# Altium footprint library Diodes_SMD.PcbLib: 28 footprints (part 1 of 2)
Each footprint in its own frame and in the unit in brackets; x right, y up, seen from the top. Pads: shape width x height; smd on the part's side, far side on the other; paste and mask are expansions set on the pad; w line width, h text height; cw(c..) or ccw(c..) is an arc to the next point about the centre after c.
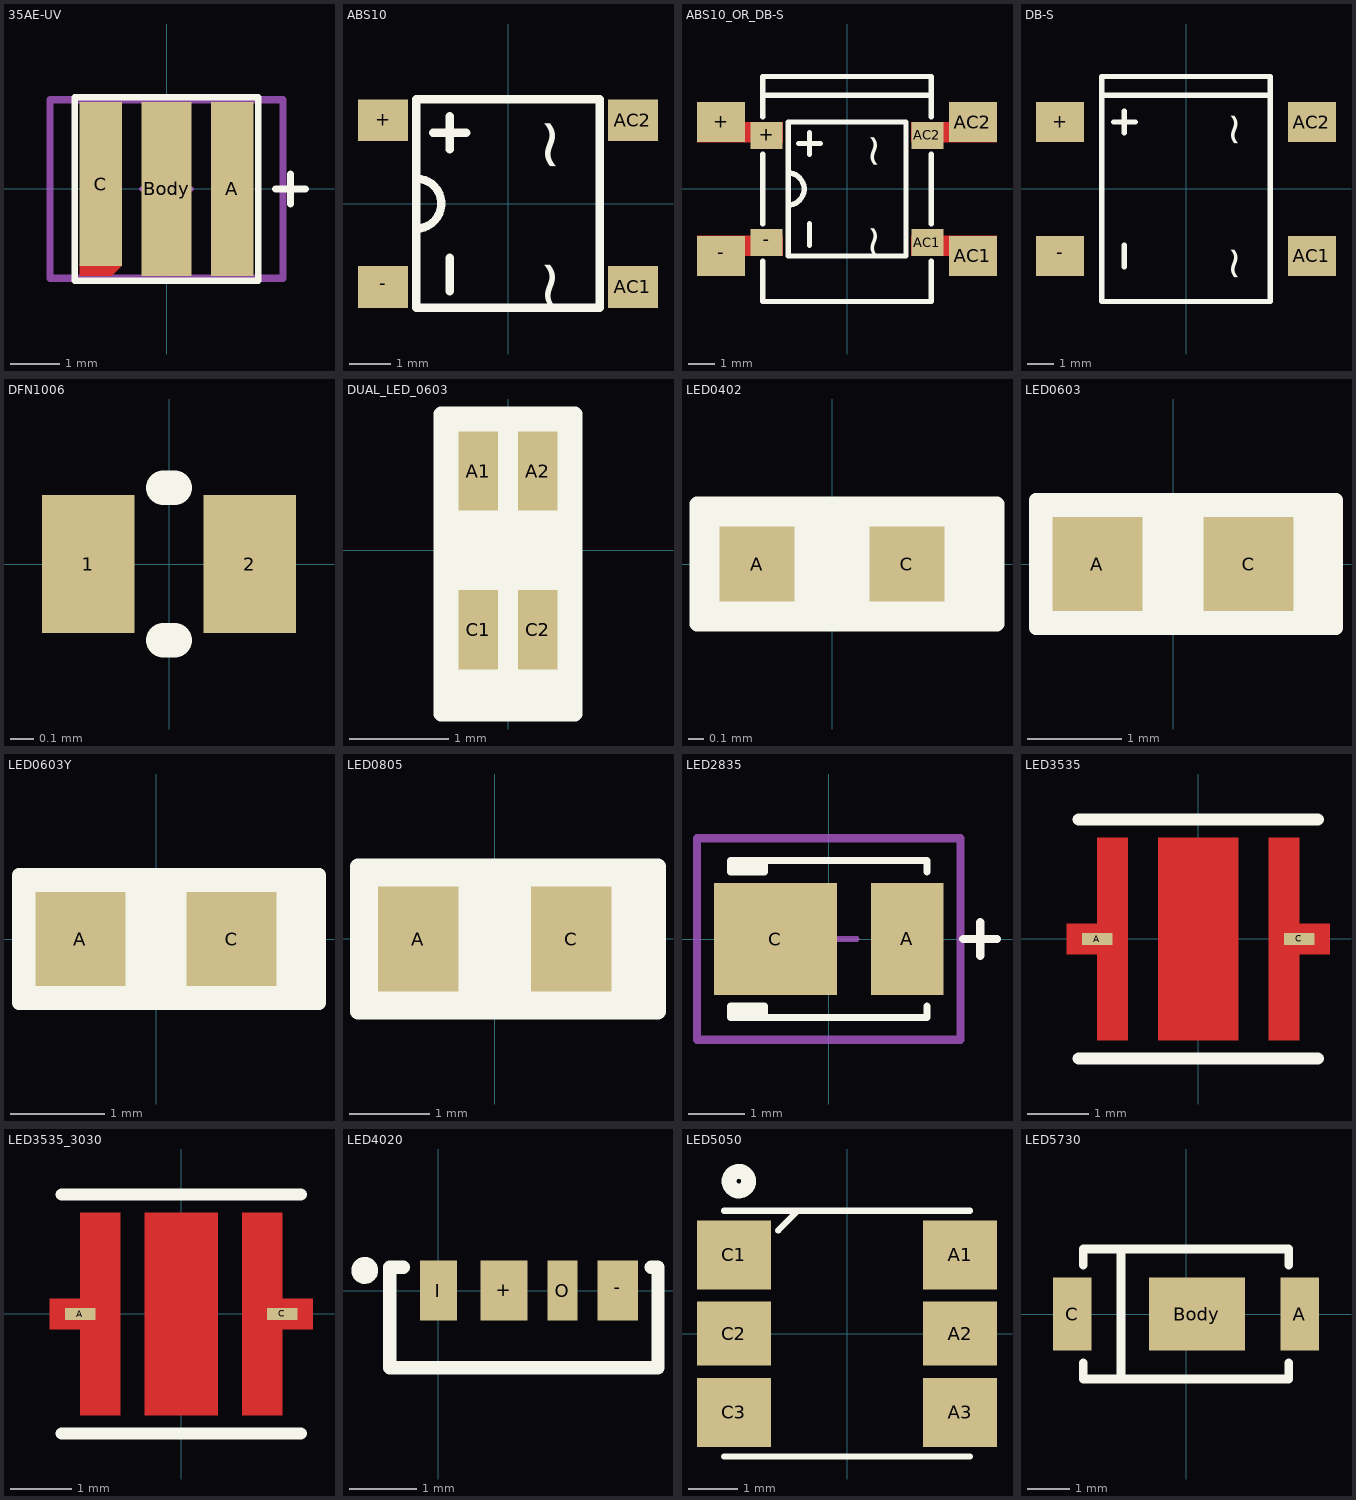
[diagram p0: the footprints below, top view; thin cyan lines are the x and y axes]

## 35AE-UV [mm]
pads (3):
  rect 0.85x3.5 smd: A(1.325,0)
  rect 1x3.5 smd: Body(0,0)
  rect 0.85x3.3 smd: C(-1.325,0.1)
Top Layer:
  region: -1.75,-1.525 -1.75,-1.75 -1.1,-1.75 -0.9,-1.55 -0.9,-1.525
Top Overlay:
  lines w0.127: -1.85,1.85 -1.85,-1.85 1.85,-1.85 1.85,1.85 -1.85,1.85
  lines w0.15: 2.2,0 2.8,0 ; 2.5,-0.3 2.5,0.3
Top Solder:
  region: -1.85,-1.525 -1.85,-1.85 -1,-1.85 -0.8,-1.65 -0.8,-1.525
Mechanical 15:
  lines w0.1: -0.5,0 0.5,0 ; 0,-0.5 0,0.5
Mechanical 16:
  lines w0.15: -2.349,-1.8 2.349,-1.8 2.349,1.8 -2.349,1.8 -2.349,-1.8
3D body: height 1.5, standoff 0, extent -1.85,-1.85 1.85,1.85

## ABS10 [mm]
pads (4):
  rect 1.2x1 smd: +(-3,2) -(-3,-2) AC1(3,-2) AC2(3,2)
Top Overlay:
  lines w0.2: -2.2,-0.6 ccw(c-2.2,0) -2.2,0.6 ; -1.8,1.7 -1,1.7 ; -1.4,-2.1 -1.4,-1.3 ; -1.4,1.3 -1.4,2.1 ; -2.2,-2.5 2.2,-2.5 2.2,2.5 -2.2,2.5 -2.2,-2.5
  text "~" at 0.5,2.1 h1.2
  text "~" at 0.5,-1.3 h1.2
3D body "ABS6.SLDPRT": height 1.55, standoff 0, extent -3.1,-2.5 3.1,2.5

## ABS10_OR_DB-S [mm]
height 2.8
pads (8):
  rect 1.8x1.5 smd: +(-4.7,2.5) -(-4.7,-2.5) AC1(4.7,-2.5) AC2(4.7,2.5)
  rect 1.2x1 smd: +(-3,2) -(-3,-2) AC1(3,-2) AC2(3,2)
Top Layer:
  region: -5.6,-2.5 -2.4,-2.5 -2.4,-1.75 -5.6,-1.75
  region: 5.6,-2.5 2.4,-2.5 2.4,-1.75 5.6,-1.75
  region: 5.6,2.5 2.4,2.5 2.4,1.75 5.6,1.75
  region: -5.6,2.5 -2.4,2.5 -2.4,1.75 -5.6,1.75
Top Overlay:
  lines w0.2: -3.15,-2.7 -3.15,-4.2 3.15,-4.2 3.15,-2.7 ; -3.15,1.3 -3.15,-1.3 ; -3.15,2.7 -3.15,4.2 3.15,4.2 3.15,2.7 ; -3.15,3.5 3.15,3.5 ; -2.2,-0.6 ccw(c-2.2,0) -2.2,0.6 ; -1.8,1.7 -1,1.7 ; -1.4,-2.1 -1.4,-1.3 ; -1.4,1.3 -1.4,2.1 ; 3.15,-1.3 3.15,1.3 ; -3.15,-1.3 -3.15,-1.3 ; -2.2,-2.5 2.2,-2.5 2.2,2.5 -2.2,2.5 -2.2,-2.5
  text "~" at 0.5,2.1 h1.2
  text "~" at 0.5,-1.3 h1.2
3D body "ABS6.SLDPRT": height 1.55, standoff 0, extent -3.1,-2.5 3.1,2.5
3D body "DB-S.stp": height 3.4, standoff 0, extent -5.15,-4.4 5.15,4.4

## DB-S [mm]
height 2.8
pads (4):
  rect 1.8x1.5 smd: +(-4.7,2.5) -(-4.7,-2.5) AC1(4.7,-2.5) AC2(4.7,2.5)
Top Overlay:
  lines w0.2: -3.15,3.5 3.15,3.5 ; -2.7,2.5 -1.9,2.5 ; -2.3,-2.9 -2.3,-2.1 ; -2.3,2.1 -2.3,2.9 ; -3.15,-4.2 -3.15,4.2 3.15,4.2 3.15,-4.2 -3.15,-4.2
  text "~" at 1.3,2.9 h1.2
  text "~" at 1.3,-2.1 h1.2
3D body "DB-S.stp": height 3.4, standoff 0, extent -5.15,-4.4 5.15,4.4

## DFN1006 [mm] "Bidirectional TVS diode"
pads (2):
  rect 0.4x0.6 smd: 1(-0.35,0) 2(0.35,0)
Top Overlay:
  lines w0.15: -0.025,-0.33 0.025,-0.33 ; -0.025,0.33 0.025,0.33
3D body: height 0.5, standoff 0, extent -0.537,-0.337 0.537,0.337

## DUAL_LED_0603 [mm]
pads (4):
  rect 0.4x0.8 smd: A1(-0.3,0.8) A2(0.3,0.8) C1(-0.3,-0.8) C2(0.3,-0.8)
Top Overlay:
  pour cut-out: -0.675,-1.65 -0.675,1.375 0.675,1.375 0.675,-1.65
  lines w0.15: -0.675,-1.375 0.675,-1.375 ; -0.675,-1.65 0.675,-1.65 0.675,1.375 -0.675,1.375 -0.675,-1.65
3D body "LTST-C190GKT.STEP": height 0.9, standoff 0, extent -0.45,-0.85 0.45,0.85

## LED0402 [mm] "LED chip, EIA 0402, 1.0x0.5mm"
height 0.55
pads (2):
  rect 0.5x0.5 smd: A(-0.5,0) C(0.5,0)
Top Overlay:
  pour cut-out: -0.9,0.4 1.1,0.4 1.1,-0.4 -0.9,-0.4
  lines w0.1: 0.9,-0.4 0.9,0.4 ; -0.9,-0.4 -0.9,0.4 1.1,0.4 1.1,-0.4 -0.9,-0.4
Board:
  lines w0.01: -0.15,-0.2 0.225,0 -0.15,0.2 -0.15,-0.2
Mechanical 15:
  lines w0.05: -0.3,0 0.3,0 ; 0,-0.25 0,0.25 ; -0.75,-0.25 0.75,-0.25 0.75,0.25 -0.75,0.25 -0.75,-0.25
3D body "ChipLedWith-Red.stp": height 0.16, standoff 0, extent -0.502,-0.252 0.502,0.252

## LED0603 [mm] "LED chip, EIA 0603, Metric 1608, Body 1.6x0.8mm, IPC Medium Density"
height 0.55
pads (2):
  rect 0.95x1 smd: A(-0.8,0) C(0.8,0)
Top Overlay:
  pour cut-out: -1.45,0.675 1.725,0.675 1.725,-0.675 -1.45,-0.675
  lines w0.15: 1.45,-0.675 1.45,0.675 ; -1.45,-0.675 1.725,-0.675 1.725,0.675 -1.45,0.675 -1.45,-0.675
Mechanical 15:
  lines w0.05: -0.3,0 0.3,0 ; 0,-0.3 0,0.3 ; -1.45,-0.675 1.425,-0.675 1.425,0.675 -1.45,0.675 -1.45,-0.675
3D body "LTST-C190GKT.STEP": height 0.9, standoff 0, extent -0.85,-0.45 0.85,0.45

## LED0603Y [mm] "LED chip yellow, EIA 0603, Metric 1608, Body 1.6x0.8mm, IPC Medium Density"
height 0.55
pads (2):
  rect 0.95x1 smd: A(-0.8,0) C(0.8,0)
Top Overlay:
  pour cut-out: -1.45,0.675 1.725,0.675 1.725,-0.675 -1.45,-0.675
  lines w0.15: 1.45,-0.675 1.45,0.675 ; -1.45,-0.675 -1.45,0.675 1.725,0.675 1.725,-0.675 -1.45,-0.675
Mechanical 15:
  lines w0.05: -0.3,0 0.3,0 ; 0,-0.3 0,0.3 ; -1.45,-0.675 1.425,-0.675 1.425,0.675 -1.45,0.675 -1.45,-0.675
3D body "LED_0603_Y.STEP": height 0.6, standoff 0, extent -0.8,-0.4 0.8,0.4

## LED0805 [mm] "LED chip, EIA 0603, Metric 1608, Body 1.6x0.8mm, IPC Medium Density"
height 0.55
pads (2):
  rect 1x1.3 smd: A(-0.95,0) C(0.95,0)
Top Overlay:
  pour cut-out: -1.7,0.9 2.025,0.9 2.025,-0.9 -1.7,-0.9
  lines w0.2: 1.7,-0.9 -1.7,-0.9 -1.7,0.9 1.7,0.9 ; 1.7,-0.9 1.7,0.9 ; 1.7,-0.9 2.025,-0.9 2.025,0.9 1.7,0.9
Mechanical 13:
  lines w0.1: -1,-0.625 1,-0.625 1,0.625 -1,0.625 -1,-0.625
Mechanical 15:
  lines w0.1: -0.5,0 0.5,0 ; 0,-0.5 0,0.5 ; -1.6,-0.8 -1.6,0.8 1.6,0.8 1.6,-0.8 -1.6,-0.8
3D body "LED-0805-3D.STEP": height 1.1, standoff 0, extent -1.01,-0.625 1.01,0.625

## LED2835 [mm]
pads (2):
  rect 1.3x2 smd: A(1.4,0)
  rect 2.2x2 smd: C(-0.95,0)
Top Overlay:
  rectangle: -1.75,-1.4 -1.15,-1.225
  rectangle: -1.75,1.225 -1.15,1.4
  lines w0.127: -1.15,-1.4 -1.15,-1.2 -1.75,-1.2 -1.75,-1.4 1.75,-1.4 1.75,-1.2 ; -1.15,1.4 -1.15,1.2 -1.75,1.2 -1.75,1.4 1.75,1.4 1.75,1.2
  lines w0.15: 2.4,0 3,0 ; 2.7,-0.3 2.7,0.3
Mechanical 15:
  lines w0.1: -0.5,0 0.5,0 ; 0,-0.5 0,0.5
Mechanical 16:
  lines w0.15: -2.349,-1.8 -2.349,1.8 2.349,1.8 2.349,-1.8 -2.349,-1.8
3D body: height 0.8, standoff 0, extent -1.75,-1.4 1.75,1.4

## LED3535 [mm] "Площадка под светодиоды типоразмера 3535"
height 5
pads (2):
  rect 0.5x0.2 smd: A(-1.65,0) C(1.65,0)
Top Layer:
  region: -1.65,1.65 -1.15,1.65 -1.15,-1.65 -1.65,-1.65 -1.65,-0.25 -2.15,-0.25 -2.15,0.25 -1.65,0.25
  region: -0.65,1.65 0.65,1.65 0.65,-1.65 -0.65,-1.65
  region: 1.65,-1.65 1.15,-1.65 1.15,1.65 1.65,1.65 1.65,0.25 2.15,0.25 2.15,-0.25 1.65,-0.25
Top Overlay:
  lines w0.2: -1.95,-1.95 1.95,-1.95 ; -1.95,1.95 1.95,1.95
Top Paste:
  region: -0.6,1.6 0.6,1.6 0.6,-1.6 -0.6,-1.6
  region: -1.6,1.6 -1.2,1.6 -1.2,-1.6 -1.6,-1.6 -1.6,-0.2 -2.1,-0.2 -2.1,0.2 -1.6,0.2
  region: 1.6,-1.6 1.2,-1.6 1.2,1.6 1.6,1.6 1.6,0.2 2.1,0.2 2.1,-0.2 1.6,-0.2
Top Solder:
  region: -0.75,1.75 0.75,1.75 0.75,-1.75 -0.75,-1.75
  region: -1.05,1.75 -1.05,-1.75 -1.75,-1.75 -1.75,-0.35 -2.25,-0.35 -2.25,0.35 -1.75,0.35 -1.75,1.75
  region: 1.05,-1.75 1.05,1.75 1.75,1.75 1.75,0.35 2.25,0.35 2.25,-0.35 1.75,-0.35 1.75,-1.75
  lines w0.2: -2.65,1.15 -2.05,1.15 ; -2.35,0.85 -2.35,1.45
3D body "Seoul SZ5.STEP": height 2.36, standoff 0, extent -1.725,-1.725 1.725,1.725

## LED3535_3030 [mm]
height 5
pads (2):
  rect 0.5x0.2 smd: A(-1.65,0) C(1.65,0)
Top Layer:
  region: -1.65,1.65 -1,1.65 -1,-1.65 -1.65,-1.65 -1.65,-0.25 -2.15,-0.25 -2.15,0.25 -1.65,0.25
  region: -0.6,1.65 0.6,1.65 0.6,-1.65 -0.6,-1.65
  region: 1.65,-1.65 1,-1.65 1,1.65 1.65,1.65 1.65,0.25 2.15,0.25 2.15,-0.25 1.65,-0.25
Top Overlay:
  lines w0.2: -1.95,-1.95 1.95,-1.95 ; -1.95,1.95 1.95,1.95
Top Paste:
  region: -0.6,1.6 0.6,1.6 0.6,-1.6 -0.6,-1.6
  region: -1.6,1.6 -1.2,1.6 -1.2,-1.6 -1.6,-1.6 -1.6,-0.2 -2.1,-0.2 -2.1,0.2 -1.6,0.2
  region: 1.6,-1.6 1.2,-1.6 1.2,1.6 1.6,1.6 1.6,0.2 2.1,0.2 2.1,-0.2 1.6,-0.2
Top Solder:
  region: -0.7,1.75 0.7,1.75 0.7,-1.75 -0.7,-1.75
  region: -0.9,1.75 -0.9,-1.75 -1.75,-1.75 -1.75,-0.35 -2.25,-0.35 -2.25,0.35 -1.75,0.35 -1.75,1.75
  region: 0.9,-1.75 0.9,1.75 1.75,1.75 1.75,0.35 2.25,0.35 2.25,-0.35 1.75,-0.35 1.75,-1.75
  lines w0.2: -2.65,1.15 -2.05,1.15 ; -2.35,0.85 -2.35,1.45
3D body "Seoul SZ5.STEP": height 2.36, standoff 0, extent -1.725,-1.725 1.725,1.725

## LED4020 [mm] "Intelligent control LED  integrated light source"
height 2
pads (4):
  rect 0.7x0.9 smd: +(0.975,0)
  rect 0.6x0.9 smd: -(2.675,0)
  rect 0.55x0.9 smd: I(0,0)
  rect 0.45x0.9 smd: O(1.85,0)
Top Overlay:
  circle w0.2: c-1.1,0.3 r0.1
  lines w0.2: -0.525,0.35 -0.725,0.35 -0.725,-1.15 3.275,-1.15 3.275,0.35 3.175,0.35
3D body: height 1.5, standoff 0.5, extent -0.232,-1.15 2.768,-0.4
3D body: height 2, standoff 0, extent -0.725,-1.14 3.275,0.35

## LED5050 [mm] "5050_LED"
height 1.6
pads (6):
  rect 1.5x1.4 smd: A1(2.3,1.6) A3(2.3,-1.6) C1(-2.3,1.6) C3(-2.3,-1.6)
  rect 1.5x1.3 smd: A2(2.3,0) C2(-2.3,0)
Top Overlay:
  circle w0.3: c-2.2,3.1 r0.2
  lines w0.127: -2.5,-2.5 2.5,-2.5 ; -2.5,2.5 2.5,2.5 ; -1.4,2.1 -1,2.5
3D body "LED SMD 5050 RGB.stp": height 1.62, standoff 0, extent -2.7,-2.5 2.7,2.5

## LED5730 [mm] "Площадка, для светодиода в корпусе 5730"
height 1
pads (3):
  rect 0.9x1.7 smd: A(2.667,0) C(-2.667,0)
  rect 2.25x1.7 smd: Body(0.254,0)
Top Overlay:
  lines w0.2: -2.413,-1.143 -2.413,-1.524 2.413,-1.524 2.413,-1.143 ; -2.413,1.143 -2.413,1.524 2.413,1.524 2.413,1.143 ; -1.524,-1.524 -1.524,1.524
3D body "5730.STEP": height 0.95, standoff 0, extent -2.817,-1.525 2.783,1.475